# EAGLE library part FPC-12P (library Generic Connector)
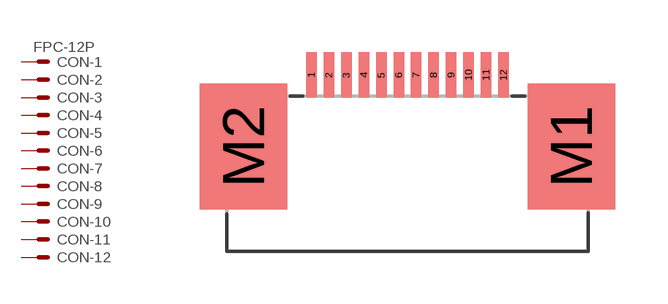
[diagram p1: symbol with the pads of FPC-12P; footprint FPC-12P]

Designator prefix CON; gates -2=K -1=KV -3=K -4=K -5=K -6=K -7=K -8=K -9=K -10=K -11=K -12=K

## FPC-12P  [FPC-12P]
1  -1:S  pas
2  -2:S  pas
3  -3:S  pas
4  -4:S  pas
5  -5:S  pas
6  -6:S  pas
7  -7:S  pas
8  -8:S  pas
9  -9:S  pas
10  -10:S  pas
11  -11:S  pas
12  -12:S  pas

## Footprint FPC-12P (pad centres in mm)
smd 0.3 x 1.3: 1 -2.75,3.5; 2 -2.25,3.5; 3 -1.75,3.5; 4 -1.25,3.5; 5 -0.75,3.5; 6 -0.25,3.5; 7 0.25,3.5; 8 0.75,3.5; 9 1.25,3.5; 10 1.75,3.5; 11 2.25,3.5; 12 2.75,3.5
smd 2.5 x 3.6: M1 4.69,1.45; M2 -4.69,1.45